# Altium schematic symbol library Schlib1.SchLib: 18 symbols
Pins are listed as number, name and electrical type; pins without a type are passive.

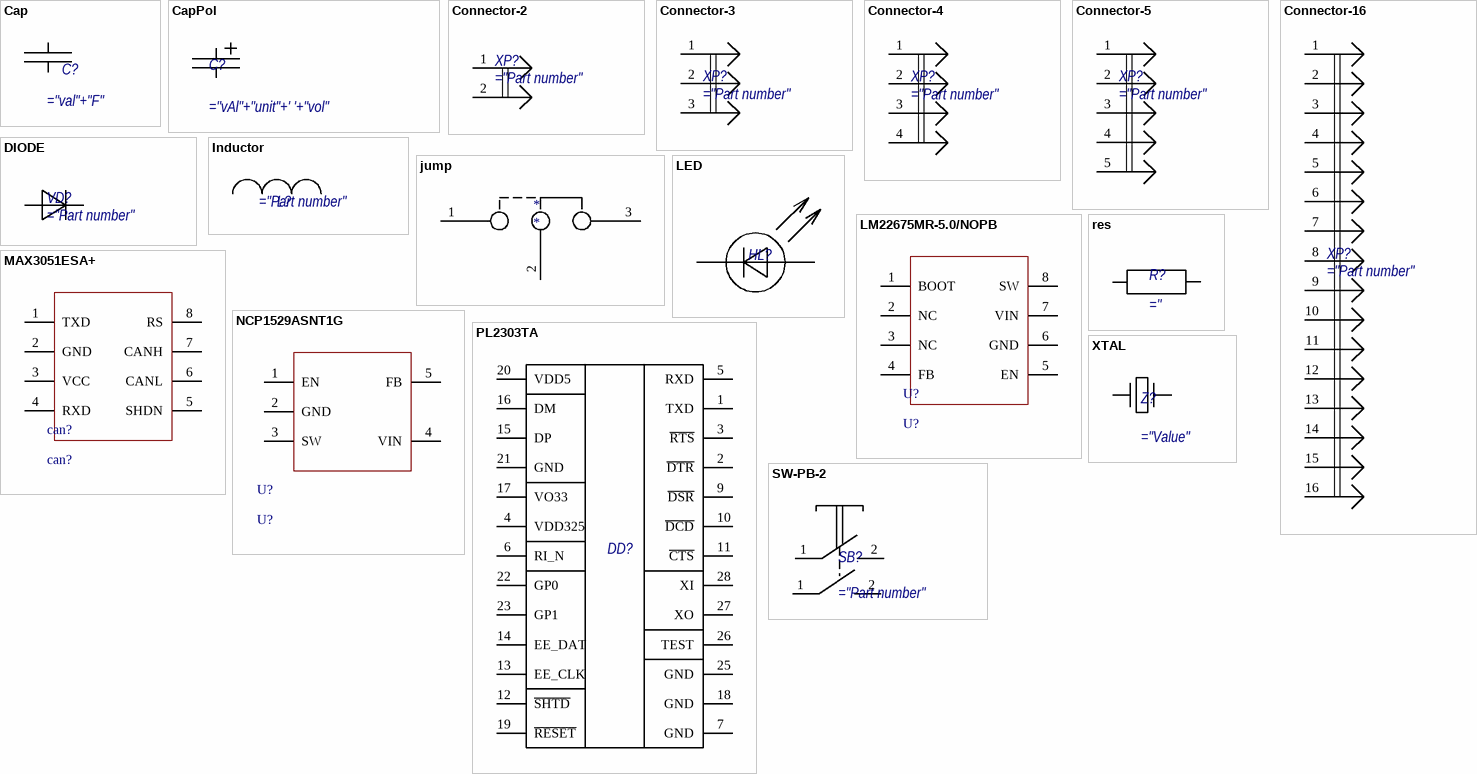
[diagram p0: symbols Cap to XTAL]

## Cap
designator C?
ComponentLink1Description: New link
signal-integrity model Cap
footprint C1812C
pins: 1, 2

## CapPol
designator C?
pins: 1, 2

## Connector-2
designator XP?
pins: 1, 2
2 alternate drawings of the same symbol

## Connector-3
designator XP?
pins: 1, 2, 3

## Connector-4
designator XP?
pins: 1, 2, 3, 4

## Connector-5
designator XP?
pins: 1, 2, 3, 4, 5

## Connector-16
designator XP?
pins: 1, 2, 3, 4, 5, 6, 7, 8, 9, 10, 11, 12, 13, 14, 15, 16

## DIODE
designator VD?
pins: A, C

## Inductor
designator L?
pins: 1, 2
1 alternate drawing of the same symbol

## jump
designator *
pins: 1, 2, 3

## LED
designator HL?  (value not drawn)
footprint C0603D
pins: 1, 2
1 alternate drawing of the same symbol

## LM22675MR-5.0/NOPB
designator U?, comment U?
ComponentLink1Description: New link; ComponentLink1URL: https://www.chipdip.ru/product/lm22675mr-5.0-nopb-2
footprint LM22675MR-5.0/NOPB
pins: 1 BOOT, 2 NC, 3 NC, 4 FB, 5 EN, 6 GND, 7 VIN, 8 SW

## MAX3051ESA+
designator can?, comment can?
ComponentLink1Description: New link; ComponentLink1URL: https://www.chipdip.ru/product/max3051esa-maxim
footprint MAX3051ESA+
pins: 1 TXD, 2 GND, 3 VCC, 4 RXD, 5 SHDN, 6 CANL, 7 CANH, 8 RS

## NCP1529ASNT1G
designator U?, comment U?
ComponentLink1Description: New link; ComponentLink1URL: https://www.chipdip.ru/product/ncp1529asnt1g
footprint NCP1529ASNT1G
pins: 1 EN, 2 GND, 3 SW, 4 VIN, 5 FB

## PL2303TA
designator DD?
ComponentLink1Description: New link; ComponentLink1URL: https://www.chipdip.ru/product/pl2303ta
footprint SSOP28_N (SOP, 28-Leads, Body 10.2x5.3mm, Pitch 0.65mm, IPC Medium Density)
pins: 1 TXD, 2 ~{DTR}, 3 ~{RTS}, 4 VDD325, 5 RXD, 6 RI_N, 7 GND, 9 ~{DSR}, 10 ~{DCD}, 11 ~{CTS}, 12 ~{SHTD}, 13 EE_CLK, 14 EE_DAT, 15 DP, 16 DM, 17 VO33, 18 GND, 19 ~{RESET}, 20 VDD5, 21 GND, 22 GP0, 23 GP1, 25 GND, 26 TEST, 27 XO, 28 XI
1 alternate drawing of the same symbol

## res
designator R?
ComponentLink1Description: New link
signal-integrity model Res
footprint C0805R
pins: 1, 2

## SW-PB-2
designator SB?
pins: 1, 1, 2, 2 8

## XTAL
designator Z?
pins: 1 OSC1, 2 OSC2